# EAGLE library part ESP32DEVKITC (library SWI_COMMONS)
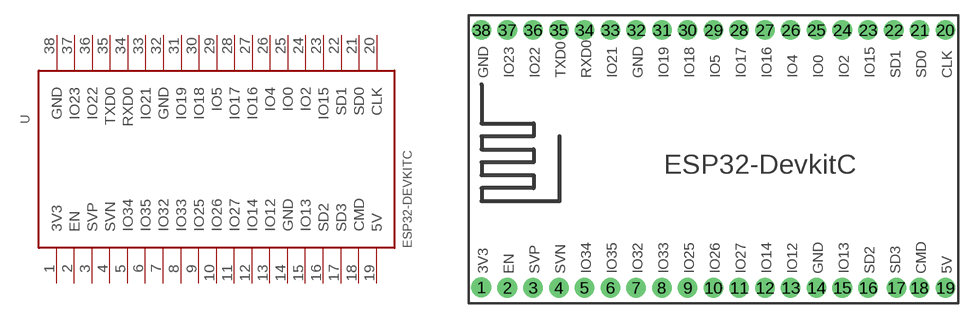
[diagram p14: symbol with the pads of ESP32-DEVKITC; footprint ESP32-DEVKITC]

Designator prefix -

## ESP32DEVKITC  [ESP32-DEVKITC]
1  3V3
2  EN
3  SVP
4  SVN
5  IO34
6  IO35
7  IO32
8  IO33
9  IO25
10  IO26
11  IO27
12  IO14
13  IO12
14  GND
15  IO13
16  SD2
17  SD3
18  CMD
19  5V
20  CLK
21  SD0
22  SD1
23  IO15
24  IO2
25  IO0
26  IO4
27  IO16
28  IO17
29  IO5
30  IO18
31  IO19
32  GND
33  IO21
34  RXD0
35  TXD0
36  IO22
37  IO23
38  GND

## Footprint ESP32-DEVKITC (pad centres in mm)
drill 1 pad 1.93: 1 -22.895,-14.163; 2 -20.33,-14.214; 3 -17.79,-14.214; 4 -15.25,-14.214; 5 -12.71,-14.214; 6 -10.17,-14.214; 7 -7.63,-14.214; 8 -5.09,-14.214; 9 -2.55,-14.214; 10 -0.01,-14.214; 11 2.53,-14.214; 12 5.07,-14.214; 13 7.61,-14.214; 14 10.15,-14.214; 15 12.69,-14.214; 16 15.23,-14.214; 17 18.024,-14.214; 18 20.31,-14.214; 19 22.85,-14.214; 20 22.85,11.23; 21 20.31,11.23; 22 17.77,11.23; 23 15.23,11.23; 24 12.69,11.23; 25 10.15,11.23; 26 7.61,11.23; 27 5.07,11.23; 28 2.53,11.23; 29 -0.01,11.23; 30 -2.55,11.23; 31 -5.09,11.23; 32 -7.63,11.23; 33 -10.17,11.23; 34 -12.71,11.23; 35 -15.25,11.23; 36 -17.79,11.23; 37 -20.33,11.23; 38 -22.87,11.23